# EAGLE library part MSS22D18 (library switch-slide)
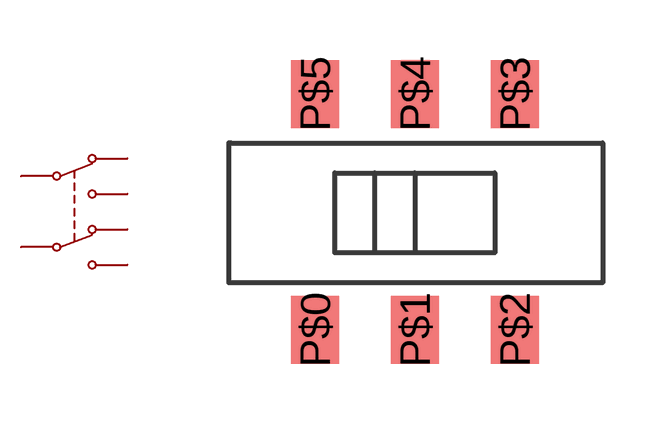
[diagram p0: symbol with the pads of MSS22D18; footprint MSS22D18]

Designator prefix -

## MSS22D18  [MSS22D18]
P$0  P$1
P$1  P$2
P$2  P$3
P$3  P$6
P$4  P$5
P$5  P$4

## Footprint MSS22D18 (pad centres in mm)
smd 1.2 x 1.7: P$0 -2.492,-2.923; P$1 0.008,-2.923; P$2 2.508,-2.923; P$3 2.508,2.977; P$4 0.008,2.977; P$5 -2.492,2.977